# EAGLE library part 24X4 (library pixel)
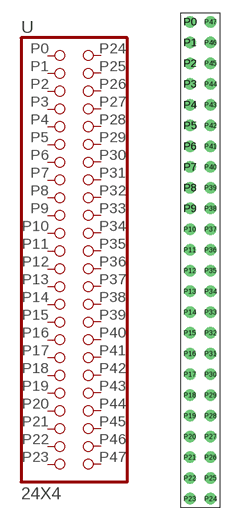
[diagram p7: symbol with the pads of 24X2; footprint 24X2]

Designator prefix -

## 24X4  [24X2]
P0  P0  pas
P1  P1  pas
P2  P2  pas
P3  P3  pas
P4  P4  pas
P5  P5  pas
P6  P6  pas
P7  P7  pas
P8  P8  pas
P9  P9  pas
P10  P10  pas
P11  P11  pas
P12  P12  pas
P13  P13  pas
P14  P14  pas
P15  P15  pas
P16  P16  pas
P17  P17  pas
P18  P18  pas
P19  P19  pas
P20  P20  pas
P21  P21  pas
P22  P22  pas
P23  P23  pas
P24  P24  pas
P25  P25  pas
P26  P26  pas
P27  P27  pas
P28  P28  pas
P29  P29  pas
P30  P30  pas
P31  P31  pas
P32  P32  pas
P33  P33  pas
P34  P34  pas
P35  P35  pas
P36  P36  pas
P37  P37  pas
P38  P38  pas
P39  P39  pas
P40  P40  pas
P41  P41  pas
P42  P42  pas
P43  P43  pas
P44  P44  pas
P45  P45  pas
P46  P46  pas
P47  P47  pas

## Footprint 24X2 (pad centres in mm)
drill 0.9 pad 1.27: P0 -1.27,29.21; P1 -1.27,26.67; P2 -1.27,24.13; P3 -1.27,21.59; P4 -1.27,19.05; P5 -1.27,16.51; P6 -1.27,13.97; P7 -1.27,11.43; P8 -1.27,8.89; P9 -1.27,6.35; P10 -1.27,3.81; P11 -1.27,1.27; P12 -1.27,-1.27; P13 -1.27,-3.81; P14 -1.27,-6.35; P15 -1.27,-8.89; P16 -1.27,-11.43; P17 -1.27,-13.97; P18 -1.27,-16.51; P19 -1.27,-19.05; P20 -1.27,-21.59; P21 -1.27,-24.13; P22 -1.27,-26.67; P23 -1.27,-29.21; P24 1.27,-29.21; P25 1.27,-26.67; P26 1.27,-24.13; P27 1.27,-21.59; P28 1.27,-19.05; P29 1.27,-16.51; P30 1.27,-13.97; P31 1.27,-11.43; P32 1.27,-8.89; P33 1.27,-6.35; P34 1.27,-3.81; P35 1.27,-1.27; P36 1.27,1.27; P37 1.27,3.81; P38 1.27,6.35; P39 1.27,8.89; P40 1.27,11.43; P41 1.27,13.97; P42 1.27,16.51; P43 1.27,19.05; P44 1.27,21.59; P45 1.27,24.13; P46 1.27,26.67; P47 1.27,29.21